# Altium footprint library INTAN_AFE_V003.PcbLib: 77 footprints (part 2 of 5)
Each footprint in its own frame and in the unit in brackets; x right, y up, seen from the top. Pads: shape width x height; smd on the part's side, far side on the other; paste and mask are expansions set on the pad; w line width, h text height; cw(c..) or ccw(c..) is an arc to the next point about the centre after c.
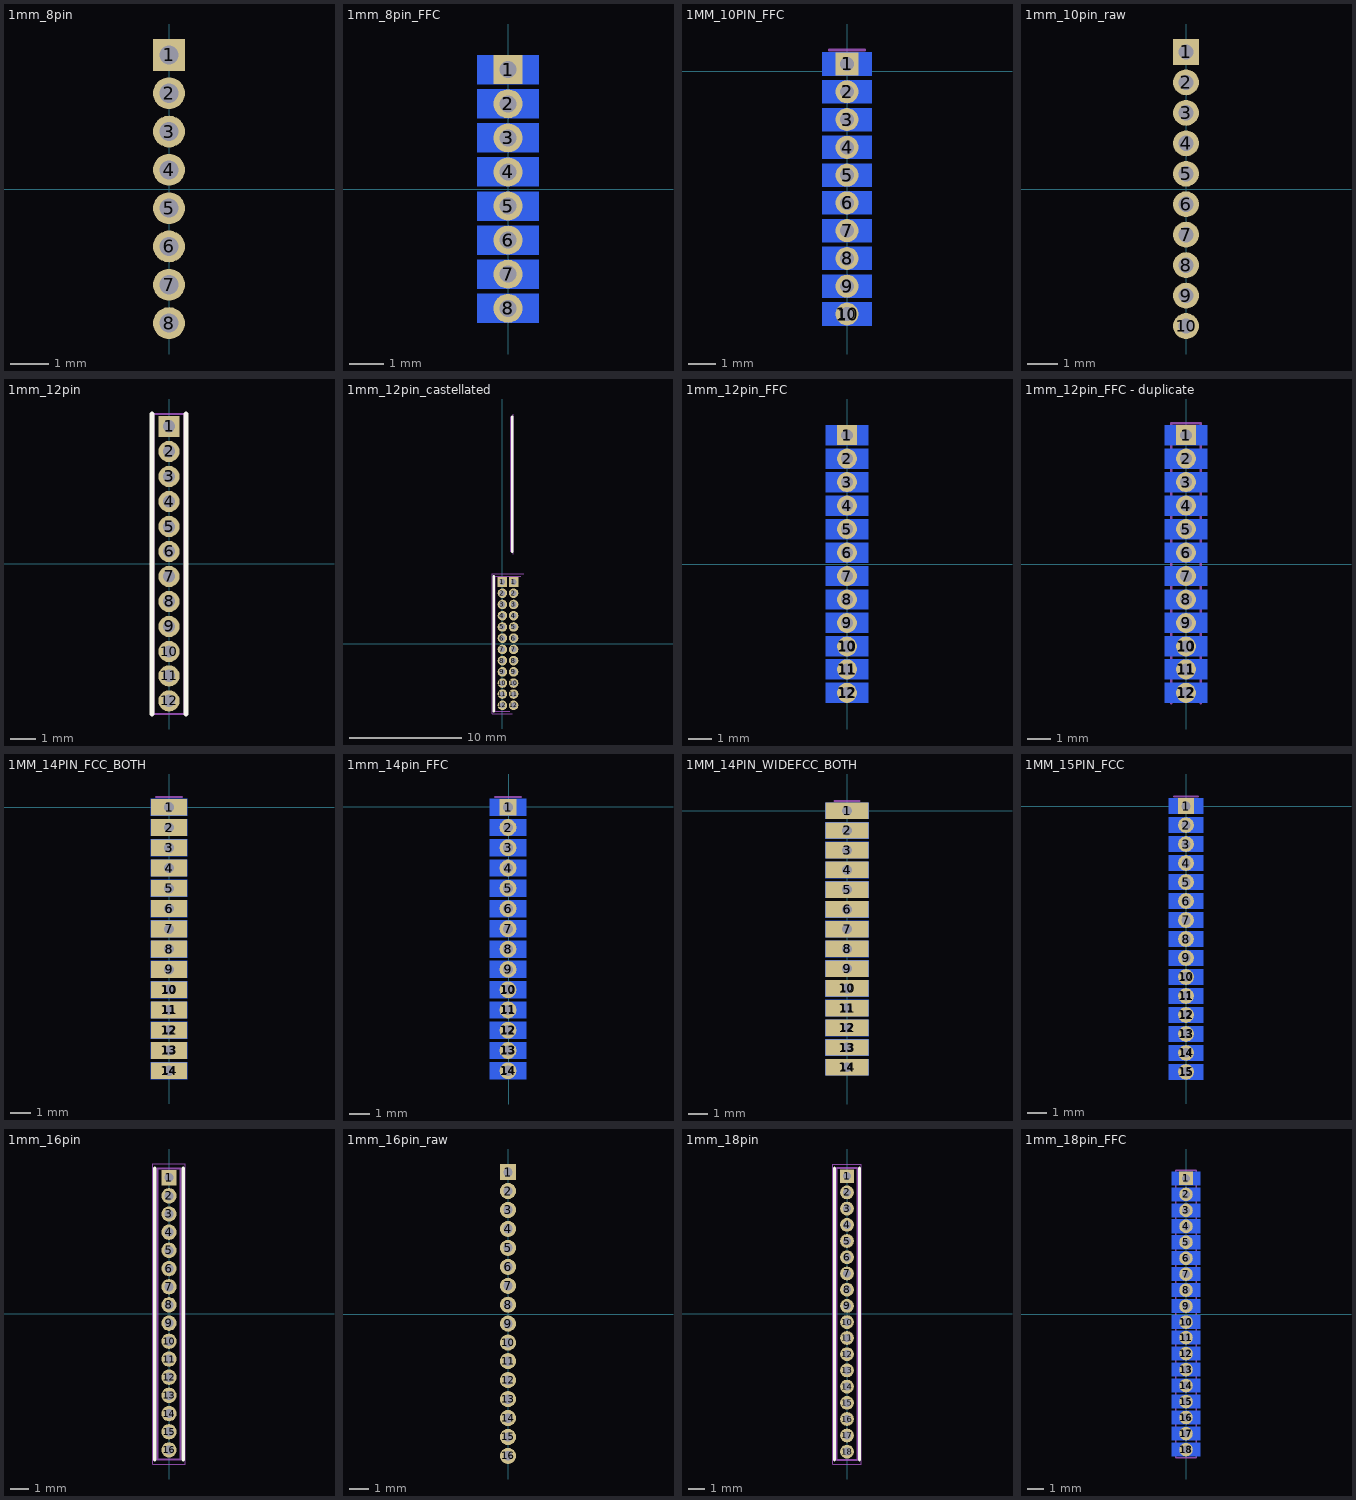
[diagram p1: the footprints below, top view; thin cyan lines are the x and y axes]

## 1mm_8pin [mm]
pads (8):
  rect 0.83x0.83 hole 0.5: 1(0,3.5)
  round 0.83 hole 0.5: 2(0,2.5) 3(0,1.5) 4(0,0.5) 5(0,-0.5) 6(0,-1.5) 7(0,-2.5) 8(0,-3.5)

## 1mm_8pin_FFC [mm]
pads (16):
  rect 0.85x0.85 hole 0.5: 1(0,3.5)
  rect 1.8x0.85 smd far side: 1(0,3.5) 2(0,2.5) 3(0,1.5) 4(0,0.5) 5(0,-0.5) 6(0,-1.5) 7(0,-2.5) 8(0,-3.5)
  round 0.85 hole 0.5: 2(0,2.5) 3(0,1.5) 4(0,0.5) 5(0,-0.5) 6(0,-1.5) 7(0,-2.5) 8(0,-3.5)

## 1MM_10PIN_FFC [mm]
pads (20):
  rect 0.83x0.83 hole 0.5: 1(-0.002,0.262)
  rect 1.8x0.83 smd far side: 1(-0.002,0.262) 2(-0.002,-0.738) 3(-0.002,-1.738) 4(-0.002,-2.738) 5(-0.002,-3.738) 6(-0.002,-4.738) 7(-0.002,-5.738) 8(-0.002,-6.738) 9(-0.002,-7.738) 10(-0.002,-8.738)
  round 0.83 hole 0.5: 2(-0.002,-0.738) 3(-0.002,-1.738) 4(-0.002,-2.738) 5(-0.002,-3.738) 6(-0.002,-4.738) 7(-0.002,-5.738) 8(-0.002,-6.738) 9(-0.002,-7.738) 10(-0.002,-8.738)
Top 3D Body:
  lines w0.1: -0.637,0.762 0.633,0.762

## 1mm_10pin_raw [mm]
pads (10):
  rect 0.85x0.85 hole 0.5: 1(0,4.5)
  round 0.85 hole 0.5: 2(0,3.5) 3(0,2.5) 4(0,1.5) 5(0,0.5) 6(0,-0.5) 7(0,-1.5) 8(0,-2.5) 9(0,-3.5) 10(0,-4.5)

## 1mm_12pin [mm]
pads (12):
  rect 0.85x0.85 hole 0.5: 1(0,5.489)
  round 0.85 hole 0.5: 2(0,4.489) 3(0,3.488) 4(0,2.488) 5(0,1.488) 6(0,0.489) 7(0,-0.512) 8(0,-1.512) 9(0,-2.512) 10(0,-3.512) 11(0,-4.489) 12(0,-5.489)
Top Overlay:
  lines w0.2: -0.675,-6.012 -0.675,5.988 ; 0.675,-6.012 0.675,5.988
Top 3D Body:
  lines w0.1: -0.635,-6.012 0.635,-6.012 0.635,5.988 -0.635,5.988 -0.635,-6.012

## 1mm_12pin_castellated [mm]
pads (24):
  rect 0.85x0.85 hole 0.5: 1(0,5.489) 1(1,5.489)
  round 0.85 hole 0.5: 2(0,4.489) 2(1,4.489) 3(0,3.488) 3(1,3.488) 4(0,2.488) 4(1,2.488) 5(0,1.488) 5(1,1.488) 6(0,0.489) 6(1,0.489) 7(0,-0.512) 7(1,-0.512) 8(0,-1.512) 8(1,-1.512) 9(0,-2.512) 9(1,-2.512) 10(0,-3.512) 10(1,-3.512) 11(0,-4.489) 11(1,-4.489) 12(0,-5.489) 12(1,-5.489)
Top Overlay:
  lines w0.2: -0.775,-6.012 -0.775,5.988 ; 0.875,8.189 0.875,20.189
Top 3D Body:
  lines w0.1: 0.365,5.988 1.635,5.988 ; 0.635,-6.012 -0.635,-6.012 -0.635,5.988 0.635,5.988 ; 0.735,8.189 0.735,20.189
Top Courtyard:
  lines w0.05: 0.115,6.238 1.885,6.238 ; 0.885,6.238 -0.885,6.238 -0.885,-6.262 ; 0.985,7.939 0.985,20.439 ; -0.885,-6.262 0.885,-6.262 -0.885,-6.262

## 1mm_12pin_FFC [mm]
pads (24):
  rect 0.85x0.85 hole 0.5: 1(0,5.489)
  rect 1.8x0.85 smd far side: 1(0,5.489) 2(0,4.489) 3(0,3.489) 4(0,2.489) 5(0,1.489) 6(0,0.489) 7(0,-0.511) 8(0,-1.511) 9(0,-2.511) 10(0,-3.511) 11(0,-4.488) 12(0,-5.488)
  round 0.85 hole 0.5: 2(0,4.489) 3(0,3.489) 4(0,2.489) 5(0,1.489) 6(0,0.489) 7(0,-0.511) 8(0,-1.511) 9(0,-2.511) 10(0,-3.511) 11(0,-4.488) 12(0,-5.488)

## 1mm_12pin_FFC - duplicate [mm]
pads (24):
  rect 0.85x0.85 hole 0.5: 1(0,5.489)
  rect 1.8x0.85 smd far side: 1(0,5.489) 2(0,4.489) 3(0,3.488) 4(0,2.488) 5(0,1.488) 6(0,0.489) 7(0,-0.512) 8(0,-1.512) 9(0,-2.512) 10(0,-3.512) 11(0,-4.489) 12(0,-5.489)
  round 0.85 hole 0.5: 2(0,4.489) 3(0,3.488) 4(0,2.488) 5(0,1.488) 6(0,0.489) 7(0,-0.512) 8(0,-1.512) 9(0,-2.512) 10(0,-3.512) 11(0,-4.489) 12(0,-5.489)
Top 3D Body:
  lines w0.1: -0.635,-5.927 -0.635,5.988 0.635,5.988 0.635,-5.927

## 1MM_14PIN_FCC_BOTH [mm]
pads (42):
  rect 0.83x0.83 hole 0.5: 1(0,0)
  rect 1.8x0.83 smd far side: 1(0,0) 2(0,-1) 3(0,-2) 4(0,-3) 5(0,-4) 6(0,-5) 7(0,-6) 8(0,-7) 9(0,-8) 10(0,-9) 11(0,-10) 12(0,-11) 13(0,-12) 14(0,-13)
  rect 1.8x0.83 smd: 1(0,0) 2(0,-1) 3(0,-2) 4(0,-3) 5(0,-4) 6(0,-5) 7(0,-6) 8(0,-7) 9(0,-8) 10(0,-9) 11(0,-10) 12(0,-11) 13(0,-12) 14(0,-13)
  round 0.83 hole 0.5: 2(0,-1) 3(0,-2) 4(0,-3) 5(0,-4) 6(0,-5) 7(0,-6) 8(0,-7) 9(0,-8) 10(0,-9) 11(0,-10) 12(0,-11) 13(0,-12) 14(0,-13)
Top 3D Body:
  lines w0.1: -0.635,0.5 0.635,0.5

## 1mm_14pin_FFC [mm]
pads (28):
  rect 1.8x0.83 smd far side: 1(-0.027,-0.017) 2(-0.027,-1.017) 3(-0.027,-2.017) 4(-0.027,-3.017) 5(-0.027,-4.017) 6(-0.027,-5.017) 7(-0.027,-6.017) 8(-0.027,-7.017) 9(-0.027,-8.017) 10(-0.027,-9.017) 11(-0.027,-10.017) 12(-0.027,-11.017) 13(-0.027,-12.017) 14(-0.027,-13.017)
  rect 0.83x0.83 hole 0.5: 1(-0.027,-0.017)
  round 0.83 hole 0.5: 2(-0.027,-1.017) 3(-0.027,-2.017) 4(-0.027,-3.017) 5(-0.027,-4.017) 6(-0.027,-5.017) 7(-0.027,-6.017) 8(-0.027,-7.017) 9(-0.027,-8.017) 10(-0.027,-9.017) 11(-0.027,-10.017) 12(-0.027,-11.017) 13(-0.027,-12.017) 14(-0.027,-13.017)
Top 3D Body:
  lines w0.1: -0.662,0.483 0.608,0.483

## 1MM_14PIN_WIDEFCC_BOTH [mm]
pads (42):
  rect 2.2x0.83 smd: 1(0,0) 2(0,-1) 3(0,-2) 4(0,-3) 5(0,-4) 6(0,-5) 7(0,-6) 8(0,-7) 9(0,-8) 10(0,-9) 11(0,-10) 12(0,-11) 13(0,-12) 14(0,-13)
  rect 2.2x0.83 smd far side: 1(0,0) 2(0,-1) 3(0,-2) 4(0,-3) 5(0,-4) 6(0,-5) 7(0,-6) 8(0,-7) 9(0,-8) 10(0,-9) 11(0,-10) 12(0,-11) 13(0,-12) 14(0,-13)
  rect 0.83x0.83 hole 0.5: 1(0,0)
  round 0.83 hole 0.5: 2(0,-1) 3(0,-2) 4(0,-3) 5(0,-4) 6(0,-5) 7(0,-6) 8(0,-7) 9(0,-8) 10(0,-9) 11(0,-10) 12(0,-11) 13(0,-12) 14(0,-13)
Top 3D Body:
  lines w0.1: -0.635,0.5 0.635,0.5

## 1MM_15PIN_FCC [mm]
pads (30):
  rect 0.83x0.83 hole 0.5: 1(0,0)
  rect 1.8x0.83 smd far side: 1(0,0) 2(0,-1) 3(0,-2) 4(0,-3) 5(0,-4) 6(0,-5) 7(0,-6) 8(0,-7) 9(0,-8) 10(0,-9) 11(0,-10) 12(0,-11) 13(0,-12) 14(0,-13) 15(0,-14)
  round 0.83 hole 0.5: 2(0,-1) 3(0,-2) 4(0,-3) 5(0,-4) 6(0,-5) 7(0,-6) 8(0,-7) 9(0,-8) 10(0,-9) 11(0,-10) 12(0,-11) 13(0,-12) 14(0,-13) 15(0,-14)
Top 3D Body:
  lines w0.1: -0.635,0.5 0.635,0.5

## 1mm_16pin [mm]
pads (16):
  rect 0.85x0.85 hole 0.5: 1(0,7.489)
  round 0.85 hole 0.5: 2(0,6.489) 3(0,5.489) 4(0,4.489) 5(0,3.488) 6(0,2.489) 7(0,1.489) 8(0,0.489) 9(0,-0.512) 10(0,-1.512) 11(0,-2.488) 12(0,-3.488) 13(0,-4.489) 14(0,-5.489) 15(0,-6.489) 16(0,-7.489)
Top Overlay:
  lines w0.2: -0.775,-8.012 -0.775,7.989 ; 0.775,-8.012 0.775,7.989
Top 3D Body:
  lines w0.1: -0.635,-8.012 -0.635,7.989 0.635,7.989 0.635,-8.012 -0.635,-8.012
Top Courtyard:
  lines w0.05: -0.885,-8.261 -0.885,8.239 0.885,8.239 0.885,-8.261 -0.885,-8.261

## 1mm_16pin_raw [mm]
pads (16):
  rect 0.85x0.85 hole 0.5: 1(0,7.489)
  round 0.85 hole 0.5: 2(0,6.489) 3(0,5.489) 4(0,4.489) 5(0,3.488) 6(0,2.489) 7(0,1.489) 8(0,0.489) 9(0,-0.512) 10(0,-1.512) 11(0,-2.488) 12(0,-3.488) 13(0,-4.489) 14(0,-5.489) 15(0,-6.489) 16(0,-7.489)

## 1mm_18pin [mm]
pads (18):
  rect 0.85x0.85 hole 0.5: 1(0,8.494)
  round 0.85 hole 0.5: 2(0,7.494) 3(0,6.494) 4(0,5.494) 5(0,4.494) 6(0,3.494) 7(0,2.494) 8(0,1.494) 9(0,0.494) 10(0,-0.506) 11(0,-1.483) 12(0,-2.483) 13(0,-3.483) 14(0,-4.483) 15(0,-5.483) 16(0,-6.483) 17(0,-7.494) 18(0,-8.494)
Top Overlay:
  lines w0.2: -0.775,-9.006 -0.775,8.994 ; 0.775,-9.006 0.775,8.994
Top 3D Body:
  lines w0.1: -0.635,-9.006 -0.635,8.994 0.635,8.994 0.635,-9.006 -0.635,-9.006
Top Courtyard:
  lines w0.05: -0.885,-9.255 -0.885,9.244 0.885,9.244 0.885,-9.255 -0.885,-9.255
3D body "BC020-18-A-0300-0200-L-G.stp": height 1, standoff -5, extent -0.635,-9 0.635,9

## 1mm_18pin_FFC [mm]
pads (36):
  rect 0.85x0.85 hole 0.5: 1(0,8.494)
  rect 1.8x0.85 smd far side: 1(0,8.494) 2(0,7.494) 3(0,6.494) 4(0,5.494) 5(0,4.494) 6(0,3.494) 7(0,2.494) 8(0,1.494) 9(0,0.494) 10(0,-0.506) 11(0,-1.483) 12(0,-2.483) 13(0,-3.483) 14(0,-4.483) 15(0,-5.483) 16(0,-6.483) 17(0,-7.494) 18(0,-8.494)
  round 0.85 hole 0.5: 2(0,7.494) 3(0,6.494) 4(0,5.494) 5(0,4.494) 6(0,3.494) 7(0,2.494) 8(0,1.494) 9(0,0.494) 10(0,-0.506) 11(0,-1.483) 12(0,-2.483) 13(0,-3.483) 14(0,-4.483) 15(0,-5.483) 16(0,-6.483) 17(0,-7.494) 18(0,-8.494)
Top 3D Body:
  lines w0.1: -0.635,-9.006 -0.635,8.994 0.635,8.994 0.635,-9.006 -0.635,-9.006